# Altium schematic symbol library C0805C334K5RACAUTO.SchLib: 2 symbols
Pins are listed as number, name and electrical type; pins without a type are passive.

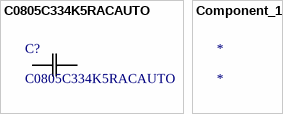
[diagram p0: symbols C0805C334K5RACAUTO to Component_1]

## C0805C334K5RACAUTO
designator C?
No Description Available; Mfr_Name: Kemet; Type: DEV; Copyright: Copyright (C) 2021 Ultra Librarian. All rights reserved.; Manufacturer_Part_Number: C0805C334K5RACAUTO; Digi-Key_Part_Number_1: 399-6959-2-ND; Digi-Key_Part_Number_2: 399-6959-1-ND; Digi-Key_Part_Number_3: 399-6959-6-ND; RefDes: RefDes
footprint CAPC220145_100N_KEM
pins: 1, 2

## Component_1
designator *